# EAGLE library part EC12E (library LARS_409_POTENTIOMETR_ENCODER)
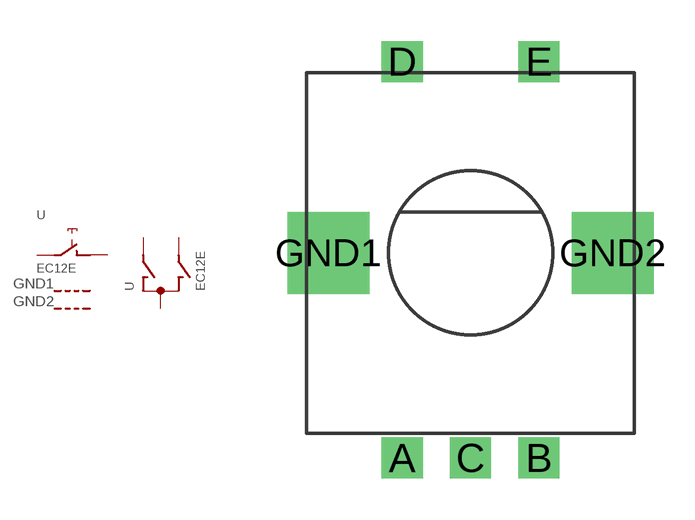
[diagram p0: symbol with the pads of EC12E; footprint EC12E]

Designator prefix -; gates G$1=SWITCH G$2=GND G$3=GND G$4=ENCODER

## EC12E  [EC12E]
A  G$4:A  pas
B  G$4:B  pas
C  G$4:C  pas
D  G$1:1  pas
E  G$1:2  pas
GND1  G$2:G  pas
GND2  G$3:G  pas

## Footprint EC12E (pad centres in mm)
drill 1 square: A -2.5,-7.5; B 2.5,-7.5; C 0,-7.5; D -2.5,7; E 2.5,7
drill 2 square: GND1 -5.2,0; GND2 5.2,0